# EAGLE library part TCA9617B (library SKAARHOJ)
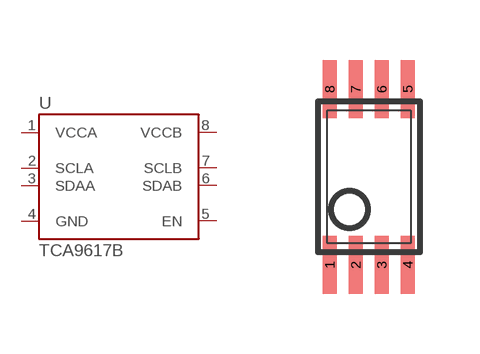
[diagram p90: symbol with the pads of VSSOP8; footprint VSSOP8]

Designator prefix -

## TCA9617B  [VSSOP8]
1  VCCA  pwr
2  SCLA
3  SDAA
4  GND  pwr
5  EN  in
6  SDAB
7  SCLB
8  VCCB  pwr

## Footprint VSSOP8 (pad centres in mm)
smd 0.35 x 1.45: 1 -0.975,-2.2; 2 -0.325,-2.2; 3 0.325,-2.2; 4 0.975,-2.2; 5 0.975,2.2; 6 0.325,2.2; 7 -0.325,2.2; 8 -0.975,2.2